# Altium footprint library ece315.PcbLib: 20 footprints (part 1 of 2)
Each footprint in its own frame and in the unit in brackets; x right, y up, seen from the top. Pads: shape width x height; smd on the part's side, far side on the other; paste and mask are expansions set on the pad; w line width, h text height; cw(c..) or ccw(c..) is an arc to the next point about the centre after c.
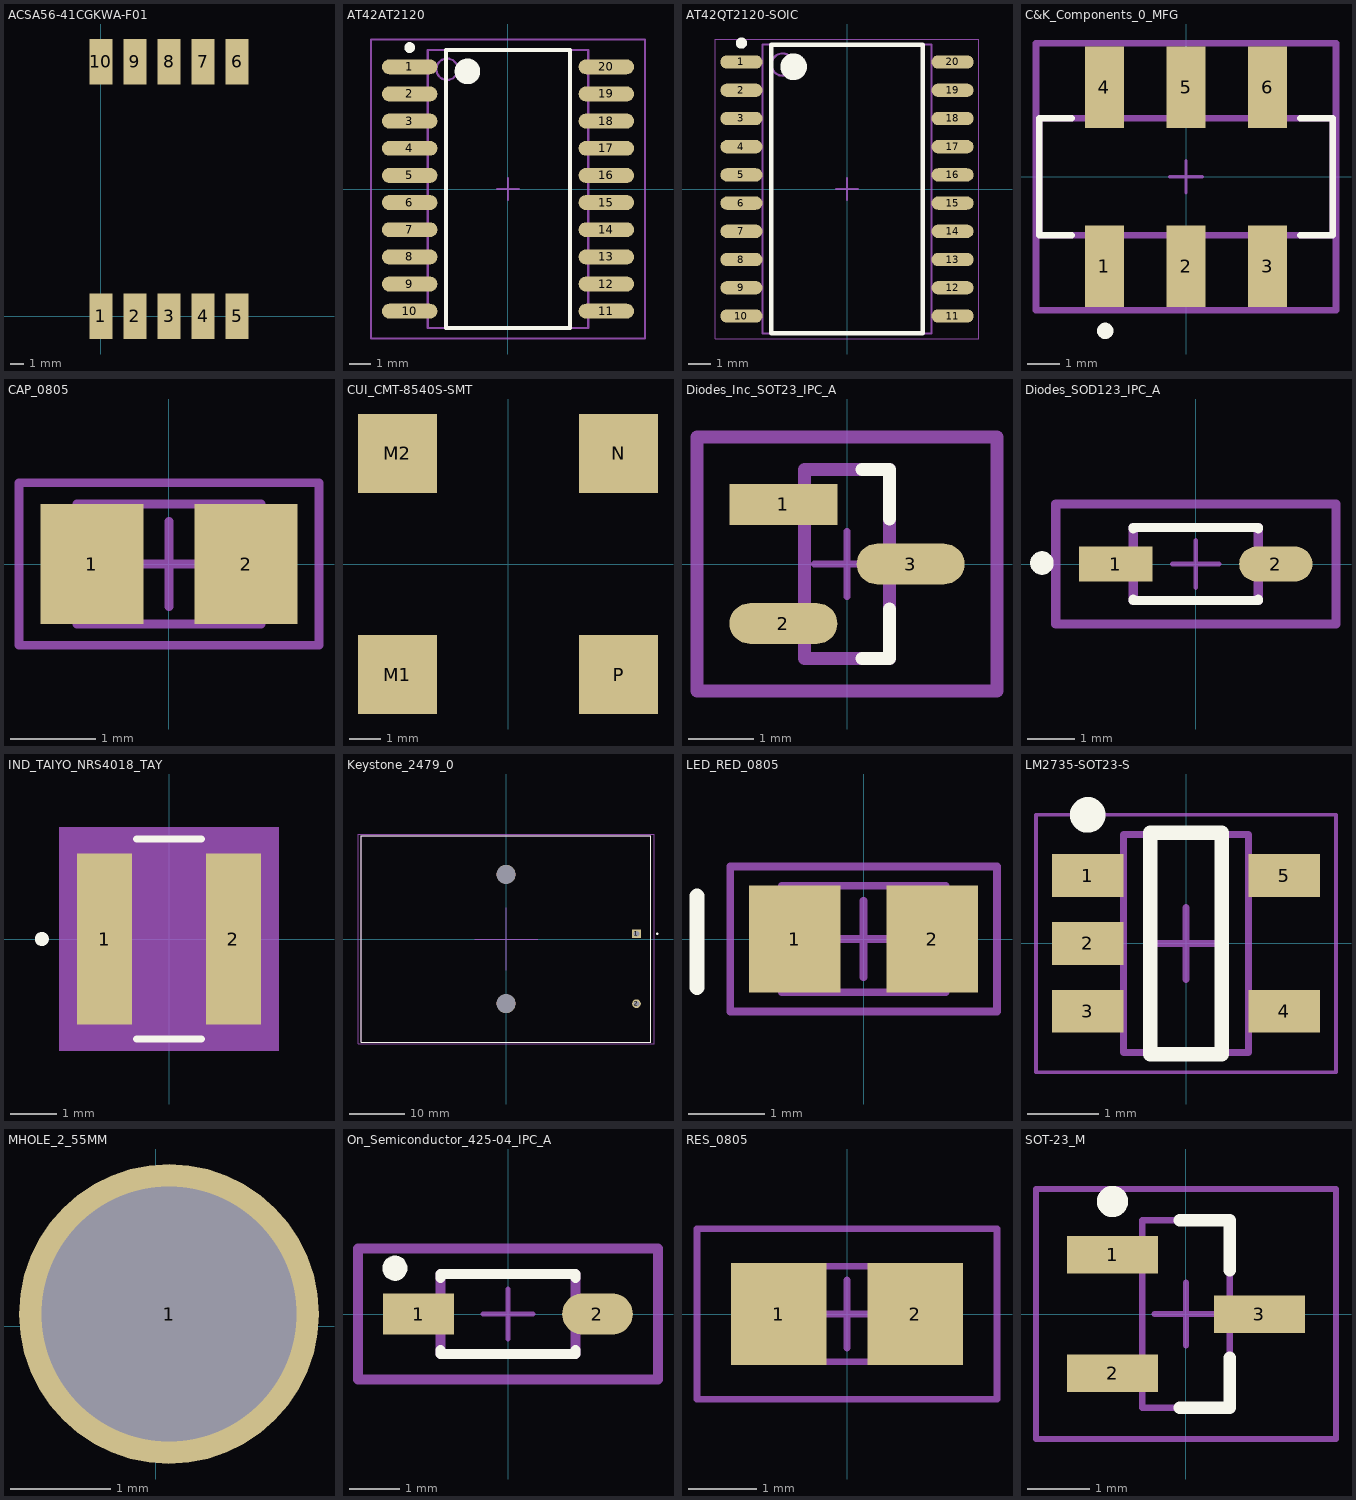
[diagram p0: the footprints below, top view; thin cyan lines are the x and y axes]

## ACSA56-41CGKWA-F01 [mm]
pads (10):
  rect 1.7x3.4 smd: 1(0,0) 2(2.54,0) 3(5.08,0) 4(7.62,0) 5(10.16,0) 6(10.16,19) 7(7.62,19) 8(5.08,19) 9(2.54,19) 10(0,19)
3D body "ACSA56-41CGKWA-F01.step": height 3.8, standoff 0, extent -1.12,0.025 11.28,19.025

## AT42AT2120 [mm] "SOIC, 20-Leads, Body 12.8x7.5mm, Pitch 1.27mm, IPC Low Density"
height 2.65
pads (20):
  oval 2.6x0.7 smd: 1(-4.6,5.715) 2(-4.6,4.445) 3(-4.6,3.175) 4(-4.6,1.905) 5(-4.6,0.635) 6(-4.6,-0.635) 7(-4.6,-1.905) 8(-4.6,-3.175) 9(-4.6,-4.445) 10(-4.6,-5.715) 11(4.6,-5.715) 12(4.6,-4.445) 13(4.6,-3.175) 14(4.6,-1.905) 15(4.6,-0.635) 16(4.6,0.635) 17(4.6,1.905) 18(4.6,3.175) 19(4.6,4.445) 20(4.6,5.715)
Top Overlay:
  circle w0.6: c-1.9,5.5 r0.3
  circle w0.25: c-4.6,6.615 r0.125
  lines w0.2: -2.9,-6.5 2.9,-6.5 2.9,6.5 -2.9,6.5 -2.9,-6.5
Mechanical 13:
  circle w0.1: c-2.85,5.6 r0.5
  lines w0.1: -3.75,-6.5 3.75,-6.5 3.75,6.5 -3.75,6.5 -3.75,-6.5
Mechanical 15:
  lines w0.1: -0.5,0 0.5,0 ; 0,-0.5 0,0.5 ; -6.4,-7 6.4,-7 6.4,7 -6.4,7 -6.4,-7
3D body: height 2.65, standoff 0, extent -3.75,-6.5 3.75,6.5

## AT42QT2120-SOIC [mm] "SOIC, 20-Leads, Body 12.80x7.50mm, Pitch 1.27mm, IPC Medium Density"
height 2.35
pads (20):
  oval 1.9x0.6 smd: 1(-4.75,5.715) 2(-4.75,4.445) 3(-4.75,3.175) 4(-4.75,1.905) 5(-4.75,0.635) 6(-4.75,-0.635) 7(-4.75,-1.905) 8(-4.75,-3.175) 9(-4.75,-4.445) 10(-4.75,-5.715) 11(4.75,-5.715) 12(4.75,-4.445) 13(4.75,-3.175) 14(4.75,-1.905) 15(4.75,-0.635) 16(4.75,0.635) 17(4.75,1.905) 18(4.75,3.175) 19(4.75,4.445) 20(4.75,5.715)
Top Overlay:
  circle w0.25: c-4.75,6.565 r0.125
  circle w0.6: c-2.4,5.5 r0.3
  lines w0.2: -3.4,-6.5 -3.4,6.5 3.4,6.5 3.4,-6.5 -3.4,-6.5
Mechanical 10:
  text "Anna Stephan" at -3.811,-8.078 h1
Mechanical 13:
  circle w0.1: c-2.9,5.6 r0.5
  lines w0.1: -3.8,-6.5 -3.8,6.5 3.8,6.5 3.8,-6.5 -3.8,-6.5
Mechanical 15:
  lines w0.05: -5.925,-6.75 -5.925,6.75 5.925,6.75 5.925,-6.75 -5.925,-6.75
  lines w0.1: -0.5,0 0.5,0 ; 0,-0.5 0,0.5
3D body: height 2.35, standoff 0.1, extent -3.8,-6.5 3.8,6.5

## C&K_Components_0_MFG [mm]
pads (6):
  rect 1.2x2.5 smd paste+0 mask+0: 1(-2.5,-2.75) 2(0,-2.75) 3(2.5,-2.75) 4(-2.5,2.75) 5(0,2.75) 6(2.5,2.75)
Top Overlay:
  circle w0.25: c-2.476,-4.725 r0.125
  lines w0.2: -3.5,-1.8 -4.5,-1.8 -4.5,1.8 -3.5,1.8 ; 3.5,-1.8 4.5,-1.8 4.5,1.8 3.5,1.8
Mechanical 10:
  lines w0.2: -4.6,-4.1 4.6,-4.1 4.6,4.1 -4.6,4.1 -4.6,-4.1
Mechanical 12:
  lines w0.2: -4.5,-1.8 4.5,-1.8 4.5,1.8 -4.5,1.8 -4.5,-1.8
Mechanical 15:
  lines w0.1: -0.5,0 0.5,0 ; 0,-0.5 0,0.5
  lines w0.2: -4.6,-4.1 4.6,-4.1 4.6,4.1 -4.6,4.1 -4.6,-4.1
3D body "JS202011SCQN--3DModel-STEP-56544.STEP": height 5.51, standoff 0, extent -4.496,-3.746 4.496,3.747

## CAP_0805 [mm]
pads (2):
  rect 1.2x1.4 smd: 1(-0.9,0) 2(0.9,0)
Mechanical 13:
  lines w0.1: -1.075,-0.7 -1.075,0.7 1.075,0.7 1.075,-0.7 -1.075,-0.7
Mechanical 15:
  lines w0.1: -0.5,0 0.5,0 ; 0,-0.5 0,0.5 ; -1.75,-0.95 -1.75,0.95 1.75,0.95 1.75,-0.95 -1.75,-0.95
3D body: height 0.7, standoff 0, extent -1.075,-0.7 1.075,0.7

## CUI_CMT-8540S-SMT [mm]
pads (4):
  rect 2.5x2.5 smd: M1(-3.5,-3.5) M2(-3.5,3.5) N(3.5,3.5) P(3.5,-3.5)
Mechanical 10:
  text "Anna Stephan" at -4.827,-6.173 h1

## Diodes_Inc_SOT23_IPC_A [mm]
pads (3):
  rect 1.659x0.627 smd paste+0 mask+0: 1(-0.977,0.915)
  rrect100% 1.659x0.627 smd paste+0 mask+0: 2(-0.977,-0.915) 3(0.977,0)
Top Overlay:
  lines w0.2: 0.228,-1.45 0.65,-1.45 0.65,-0.688 ; 0.228,1.45 0.65,1.45 0.65,0.688
Mechanical 10:
  lines w0.2: -2.306,-1.95 -2.306,1.95 2.306,1.95 2.306,-1.95 -2.306,-1.95
Mechanical 12:
  lines w0.2: -0.65,-1.45 -0.65,1.45 0.65,1.45 0.65,-1.45 -0.65,-1.45
Mechanical 15:
  lines w0.1: -0.5,0 0.5,0 ; 0,-0.5 0,0.5
  lines w0.2: -2.306,-1.95 -2.306,1.95 2.306,1.95 2.306,-1.95 -2.306,-1.95
3D body "Trans_Diodes_Inc_DMN6140L-13_eec.STEP": height 0.25, standoff 0, extent -2.306,-1.95 2.306,1.95

## Diodes_SOD123_IPC_A [mm]
pads (2):
  rect 1.557x0.742 smd paste+0 mask+0: 1(-1.7,0)
  rrect100% 1.557x0.742 smd paste+0 mask+0: 2(1.7,0)
Top Overlay:
  circle w0.25: c-3.27,0.021 r0.125
  lines w0.2: -1.325,-0.746 -1.325,-0.775 1.325,-0.775 1.325,-0.746 ; -1.325,0.746 -1.325,0.775 1.325,0.775 1.325,0.746
Mechanical 10:
  lines w0.2: -2.979,-1.275 2.979,-1.275 2.979,1.275 -2.979,1.275 -2.979,-1.275
Mechanical 12:
  lines w0.2: -1.325,-0.775 1.325,-0.775 1.325,0.775 -1.325,0.775 -1.325,-0.775
Mechanical 15:
  lines w0.1: -0.5,0 0.5,0 ; 0,-0.5 0,0.5
  lines w0.2: -2.979,-1.275 2.979,-1.275 2.979,1.275 -2.979,1.275 -2.979,-1.275
3D body "Diode_Diodes_1N5819HW-7-F_eec.STEP": height 0.25, standoff 0, extent -2.979,-1.275 2.979,1.275

## IND_TAIYO_NRS4018_TAY [mil]
pads (2):
  rect 47x146 smd paste+0 mask+0: 1(-55,0) 2(55,0)
Top Overlay:
  circle w6: c-108.5,0 r3
  lines w6: -27.58,-85.5 27.58,-85.5 ; -27.58,85.5 27.58,85.5
Mechanical 5:
  region: 93.5,-95.5 -93.5,-95.5 -93.5,95.5 93.5,95.5
Mechanical 13:
  circle w0: c-77.5,0 r3
  lines w1: -80.5,-80.5 80.5,-80.5 80.5,80.5 -80.5,80.5 -80.5,-80.5
Mechanical 15:
  region: -90.5,-83 -90.5,83 -90.5,90.5 90.5,90.5 90.5,83 90.5,-83 90.5,-90.5 -90.5,-90.5
  lines w6: -90.5,-90.5 -90.5,-83 -90.5,83 -90.5,90.5 90.5,90.5 90.5,83 90.5,-83 90.5,-90.5 -90.5,-90.5
3D body "IND_TAIYO_NRS4018_TAY.step": height 70.98, standoff 0, extent -80.51,-80.59 80.51,80.59
3D body: height 10, standoff 0, extent 0,0 10,10

## Keystone_2479_0 [mm]
pads (4):
  rect 1.57x1.57 hole 1.02 paste-1000 mask+0: 1(23.72,0.95)
  round 1.57 hole 1.02 paste-1000 mask+0: 2(23.72,-11.75)
  round 3.45 hole 3.45 unplated paste-1000 mask+0: ""(0,-11.75) ""(0,11.75)
Top Overlay:
  circle w0.25: c27.51,0.95 r0.125
  lines w0.2: -26.315,-18.745 -26.315,18.745 26.315,18.745 26.315,-18.745 -26.315,-18.745
Mechanical 10:
  lines w0.2: -26.925,-19.095 -26.925,19.095 26.925,19.095 26.925,-19.095 -26.925,-19.095
Mechanical 12:
  lines w0.15: -26.315,-18.745 -26.315,18.745 26.315,18.745 26.315,-18.745 -26.315,-18.745
Mechanical 15:
  lines w0.1: -5.729,0 5.729,0 ; 0,-5.729 0,5.729
  lines w0.2: -26.925,-19.095 -26.925,19.095 26.925,19.095 26.925,-19.095 -26.925,-19.095
3D body "3dmodel.step": height 0.25, standoff 0, extent -26.925,-19.095 26.925,19.095

## LED_RED_0805 [mm]
pads (2):
  rect 1.2x1.4 smd: 1(-0.9,0) 2(0.9,0)
Top Overlay:
  lines w0.2: -2.184,-0.635 -2.184,0.565
Mechanical 13:
  lines w0.1: -1.075,-0.7 -1.075,0.7 1.075,0.7 1.075,-0.7 -1.075,-0.7
Mechanical 15:
  lines w0.1: -0.5,0 0.5,0 ; 0,-0.5 0,0.5 ; -1.75,-0.95 -1.75,0.95 1.75,0.95 1.75,-0.95 -1.75,-0.95
3D body: height 0.8, standoff 0, extent -1.075,-0.7 1.075,0.7

## LM2735-SOT23-S [mm] "SOT23, 5-Leads, Body 2.90x2.80mm, Pitch 0.95mm, IPC Medium Density"
height 1.45
pads (5):
  rect 1x0.6 smd: 1(-1.375,0.95) 2(-1.375,0) 3(-1.375,-0.95) 4(1.375,-0.95) 5(1.375,0.95)
Top Overlay:
  circle w0.25: c-1.375,1.8 r0.125
  lines w0.2: -0.5,-1.55 -0.5,1.55 0.5,1.55 0.5,-1.55 -0.5,-1.55
Mechanical 13:
  lines w0.1: -0.875,-1.525 0.875,-1.525 0.875,1.525 -0.875,1.525 -0.875,-1.525
Mechanical 15:
  lines w0.05: -2.1,-1.8 2.1,-1.8 2.1,1.8 -2.1,1.8 -2.1,-1.8
  lines w0.1: -0.5,0 0.5,0 ; 0,-0.5 0,0.5
3D body: height 1.45, standoff 0.15, extent -0.875,-1.525 0.875,1.525

## MHOLE_2_55MM [mm]
pads (1):
  round 3 / inner round 4.572 / far side round 4.318 hole 2.55: 1(0.131,0.123)

## On_Semiconductor_425-04_IPC_A [mm]
pads (2):
  rect 1.408x0.822 smd paste+0 mask+0: 1(-1.78,0)
  rrect100% 1.408x0.822 smd paste+0 mask+0: 2(1.78,0)
Top Overlay:
  circle w0.25: c-2.249,0.911 r0.125
  lines w0.2: -1.345,-0.72 -1.345,-0.8 1.345,-0.8 1.345,-0.72 ; -1.345,0.72 -1.345,0.8 1.345,0.8 1.345,0.72
Mechanical 10:
  lines w0.2: -2.984,-1.3 2.984,-1.3 2.984,1.3 -2.984,1.3 -2.984,-1.3
Mechanical 12:
  lines w0.2: -1.345,-0.8 1.345,-0.8 1.345,0.8 -1.345,0.8 -1.345,-0.8
Mechanical 15:
  lines w0.1: -0.5,0 0.5,0 ; 0,-0.5 0,0.5
  lines w0.2: -2.984,-1.3 2.984,-1.3 2.984,1.3 -2.984,1.3 -2.984,-1.3
3D body "Diode_On_Semiconductor_MBR0540T1G_eec.STEP": height 0.25, standoff 0, extent -2.984,-1.3 2.984,1.3

## RES_0805 [mm]
pads (2):
  rect 1.4x1.5 smd: 1(-1,0) 2(1,0)
Mechanical 13:
  lines w0.1: -1.075,-0.7 1.075,-0.7 1.075,0.7 -1.075,0.7 -1.075,-0.7
Mechanical 15:
  lines w0.1: -0.5,0 0.5,0 ; 0,-0.5 0,0.5 ; -2.2,-1.25 2.2,-1.25 2.2,1.25 -2.2,1.25 -2.2,-1.25
3D body: height 0.7, standoff 0, extent -1.075,-0.7 1.075,0.7

## SOT-23_M [mm]
pads (3):
  rect 1.45x0.6 smd: 1(-1.175,0.95) 2(-1.175,-0.95) 3(1.175,0)
Top Overlay:
  circle w0.25: c-1.175,1.8 r0.125
  lines w0.2: -0.1,-1.5 0.7,-1.5 0.7,-0.7 ; -0.1,1.5 0.7,1.5 0.7,0.7
Mechanical 13:
  lines w0.1: -0.7,-1.5 -0.7,1.5 0.7,1.5 0.7,-1.5 -0.7,-1.5
Mechanical 15:
  lines w0.1: -0.5,0 0.5,0 ; 0,-0.5 0,0.5 ; -2.4,-2 -2.4,2 2.4,2 2.4,-2 -2.4,-2
3D body: height 1.1, standoff 0, extent -0.7,-1.5 0.7,1.5